# Altium schematic symbol library kmilo17pet-LT_OpAmp_LT1000.SchLib: 2280 symbols (part 36 of 79)
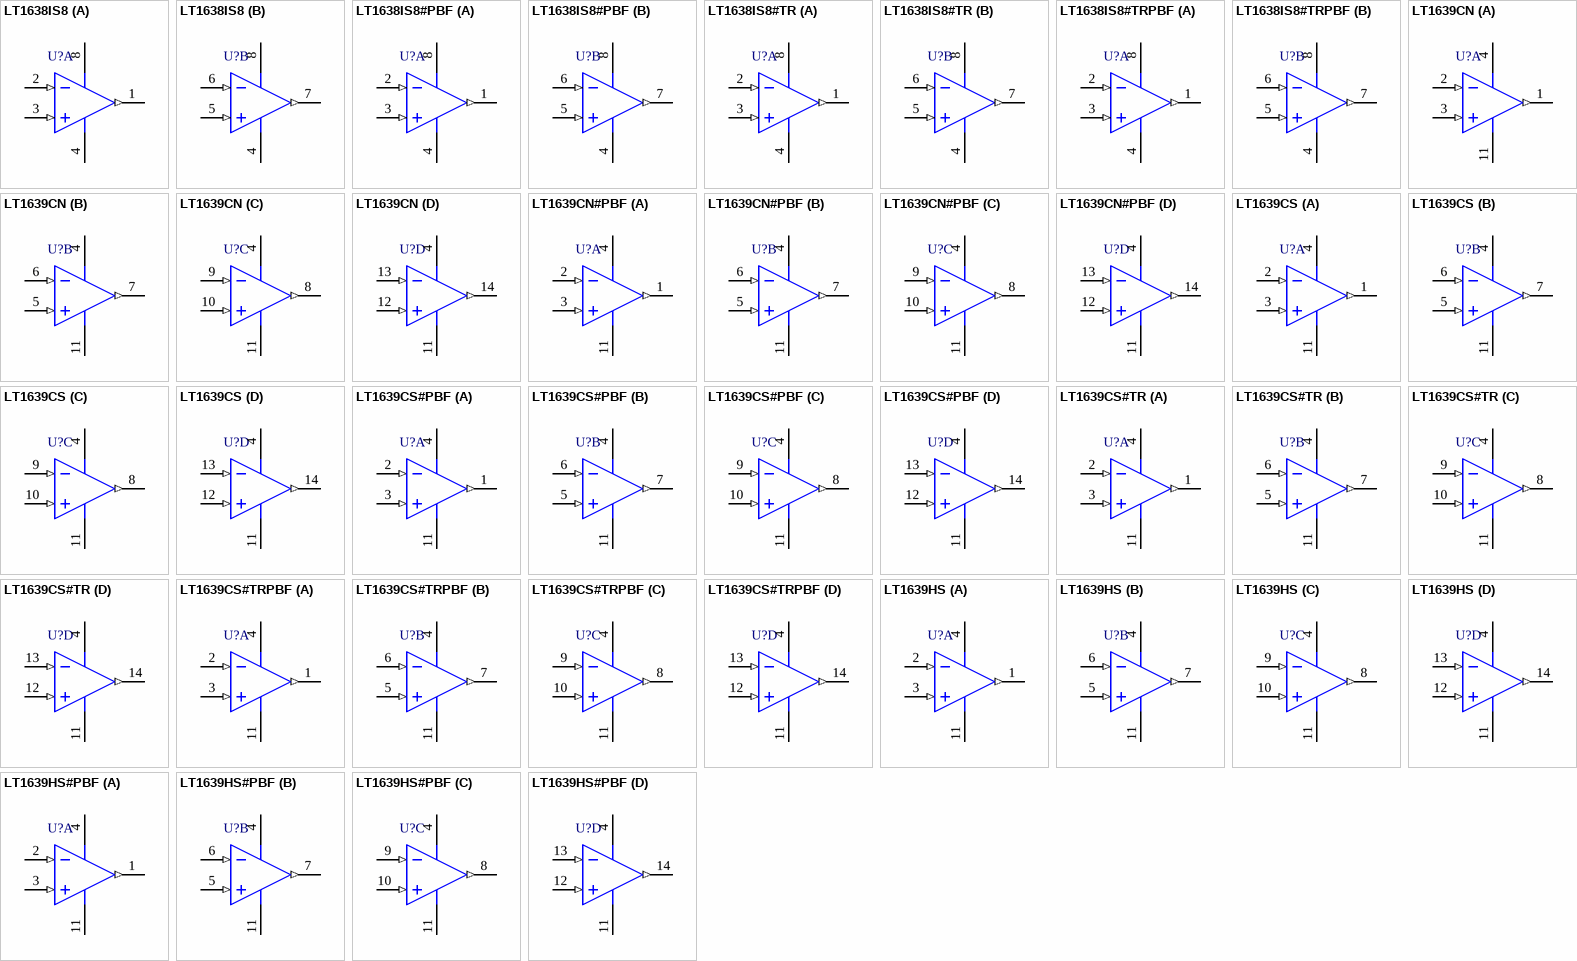
[diagram p140: symbols LT1638IS8 to LT1639HS#PBF]

## LT1639HS#PBF
designator U?
Quad Channel, High Voltage, Micropower Rail-to-Rail Operational Amplifier, 1.075 MHz Typical GBW, 0.38 V/us Typical SR, 2.2 to 44 V, 14-Pin SOIC (S-14), High Temperature / Automotive, Pb-Free; Linear Technology Part Number: LT1639; Manufacturer: Linear Technology; PartNumber: LT1639HS#PBF; Channels (#): 4; GBW (MHz) Typical: 1.075; Is (mA) Typical: 0.17; SR (V/us) Typical: 0.38; Vos (mV) Guaranteed: 0.6; Vos (mV) Typical: 0.2; Vs Max (V): 44; Vs Min (V): 2.2; DatasheetVersion: Rev. G; PackageVersion: Rev G; PackageReference: LT-S-14; PackageDescription: 14-Lead Plastic Small Outline, Body 8.65 x 3.90 mm, Pitch 1.27 mm; Supplier 1: Digi-Key; Supplier Part Number 1: LT1639HS#PBF-ND; Supplier 2: Newark; Supplier Part Number 2: 57M5522; RoHS: Pb-Free; Type: VFB; Mounting Technology: Surface Mount; ComponentLink1Description: Manufacturer URL; ComponentLink1URL: http://www.linear.com/; ComponentLink2Description: Datasheet; ComponentLink2URL: http://cds.linear.com/docs/en/datasheet/16389fg.pdf; ComponentLink3Description: Package Specification; ComponentLink3URL: http://cds.linear.com/docs/en/packaging/05081610_G_S14.pdf
footprint LT-S-14_N (SOIC, 14-Leads, Body 8.65x3.90mm, Pitch 1.27mm, IPC Medium Density)
footprint LT-S-14_L (SOIC, 14-Leads, Body 8.65x3.90mm, Pitch 1.27mm, IPC High Density)
footprint LT-S-14_M (SOIC, 14-Leads, Body 8.65x3.90mm, Pitch 1.27mm, IPC Low Density)
pins on every part: 4 V+ (power), 11 V- (power)
part A pins: 1 OUT A (out), 2 -IN A (in), 3 +IN A (in)
part B pins: 5 +IN B (in), 6 -IN B (in), 7 OUT B (out)
part C pins: 8 OUT C (out), 9 -IN C (in), 10 +IN C (in)
part D pins: 12 +IN D (in), 13 -IN D (in), 14 OUT D (out)

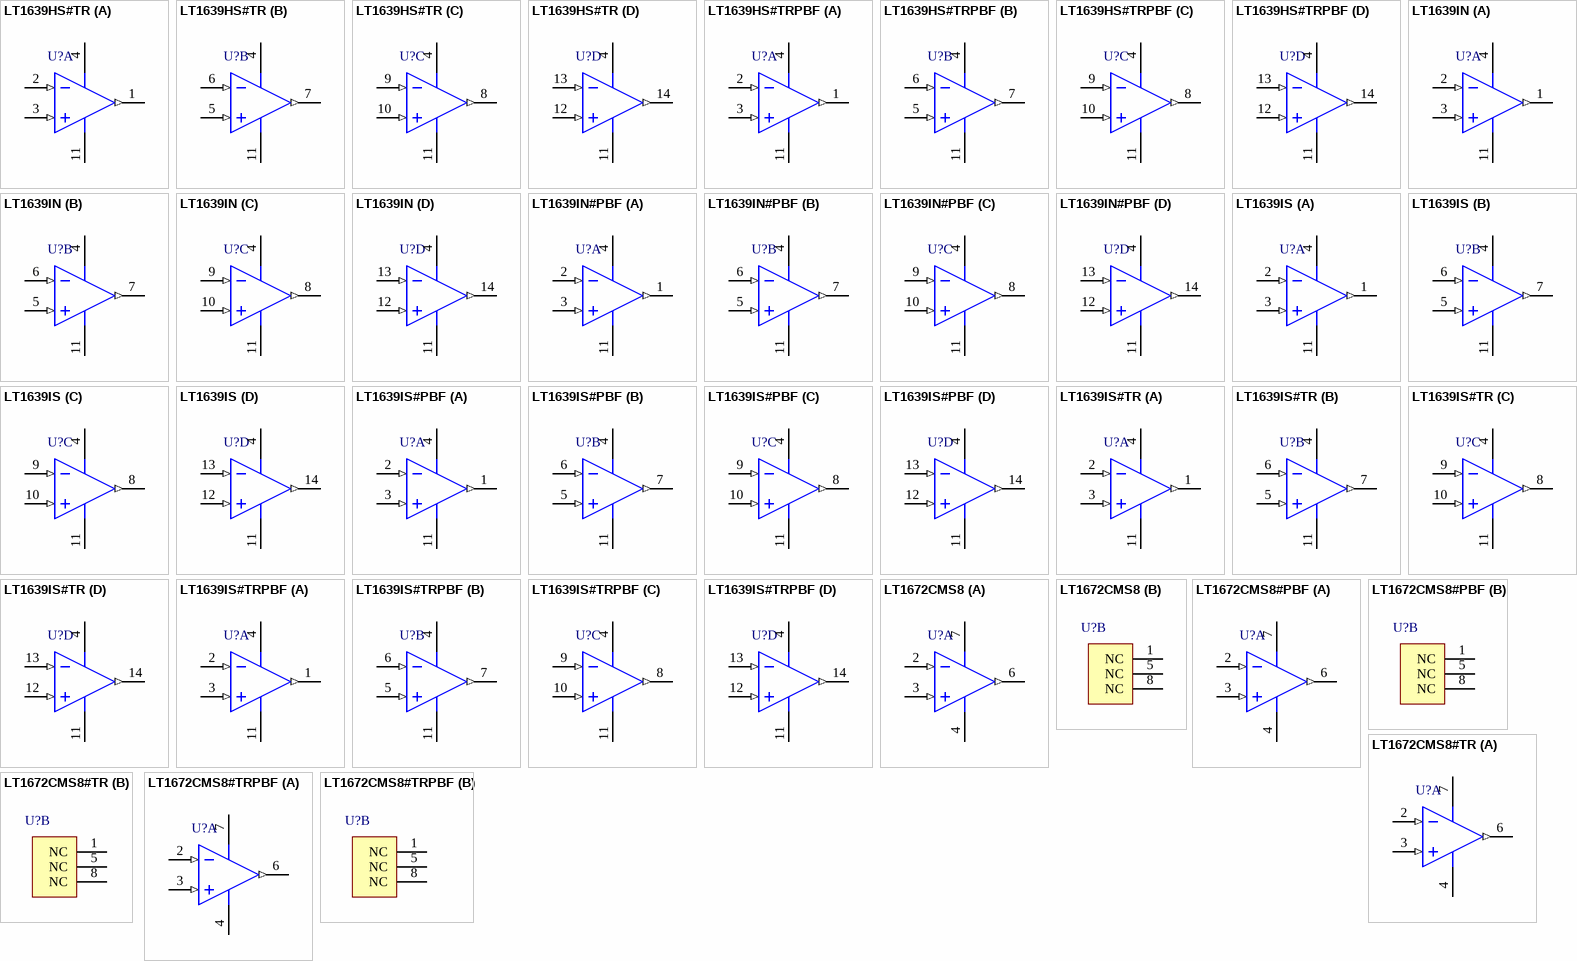
[diagram p61: symbols LT1639HS#TR to LT1672CMS8#TRPBF]

## LT1639HS#TR
designator U?
Quad Channel, High Voltage, Micropower Rail-to-Rail Operational Amplifier, 1.075 MHz Typical GBW, 0.38 V/us Typical SR, 2.2 to 44 V, 14-Pin SOIC (S-14), High Temperature / Automotive, Reel; Linear Technology Part Number: LT1639; Manufacturer: Linear Technology; PartNumber: LT1639HS#TR; Channels (#): 4; GBW (MHz) Typical: 1.075; Is (mA) Typical: 0.17; SR (V/us) Typical: 0.38; Vos (mV) Guaranteed: 0.6; Vos (mV) Typical: 0.2; Vs Max (V): 44; Vs Min (V): 2.2; DatasheetVersion: Rev. G; PackageVersion: Rev G; PackageReference: LT-S-14; PackageDescription: 14-Lead Plastic Small Outline, Body 8.65 x 3.90 mm, Pitch 1.27 mm; Supplier 1: Digi-Key; Supplier Part Number 1: LT1639HSTR-ND; Packing: Reel; Type: VFB; Mounting Technology: Surface Mount; ComponentLink1Description: Manufacturer URL; ComponentLink1URL: http://www.linear.com/; ComponentLink2Description: Datasheet; ComponentLink2URL: http://cds.linear.com/docs/en/datasheet/16389fg.pdf; ComponentLink3Description: Package Specification; ComponentLink3URL: http://cds.linear.com/docs/en/packaging/05081610_G_S14.pdf
footprint LT-S-14_N (SOIC, 14-Leads, Body 8.65x3.90mm, Pitch 1.27mm, IPC Medium Density)
footprint LT-S-14_L (SOIC, 14-Leads, Body 8.65x3.90mm, Pitch 1.27mm, IPC High Density)
footprint LT-S-14_M (SOIC, 14-Leads, Body 8.65x3.90mm, Pitch 1.27mm, IPC Low Density)
pins on every part: 4 V+ (power), 11 V- (power)
part A pins: 1 OUT A (out), 2 -IN A (in), 3 +IN A (in)
part B pins: 5 +IN B (in), 6 -IN B (in), 7 OUT B (out)
part C pins: 8 OUT C (out), 9 -IN C (in), 10 +IN C (in)
part D pins: 12 +IN D (in), 13 -IN D (in), 14 OUT D (out)

## LT1639HS#TRPBF
designator U?
Quad Channel, High Voltage, Micropower Rail-to-Rail Operational Amplifier, 1.075 MHz Typical GBW, 0.38 V/us Typical SR, 2.2 to 44 V, 14-Pin SOIC (S-14), High Temperature / Automotive, Pb-Free, Reel; Linear Technology Part Number: LT1639; Manufacturer: Linear Technology; PartNumber: LT1639HS#TRPBF; Channels (#): 4; GBW (MHz) Typical: 1.075; Is (mA) Typical: 0.17; SR (V/us) Typical: 0.38; Vos (mV) Guaranteed: 0.6; Vos (mV) Typical: 0.2; Vs Max (V): 44; Vs Min (V): 2.2; DatasheetVersion: Rev. G; PackageVersion: Rev G; PackageReference: LT-S-14; PackageDescription: 14-Lead Plastic Small Outline, Body 8.65 x 3.90 mm, Pitch 1.27 mm; Supplier 1: Digi-Key; Supplier Part Number 1: LT1639HS#TRPBF-ND; Packing: Reel; RoHS: Pb-Free; Type: VFB; Mounting Technology: Surface Mount; ComponentLink1Description: Manufacturer URL; ComponentLink1URL: http://www.linear.com/; ComponentLink2Description: Datasheet; ComponentLink2URL: http://cds.linear.com/docs/en/datasheet/16389fg.pdf; ComponentLink3Description: Package Specification; ComponentLink3URL: http://cds.linear.com/docs/en/packaging/05081610_G_S14.pdf
footprint LT-S-14_N (SOIC, 14-Leads, Body 8.65x3.90mm, Pitch 1.27mm, IPC Medium Density)
footprint LT-S-14_L (SOIC, 14-Leads, Body 8.65x3.90mm, Pitch 1.27mm, IPC High Density)
footprint LT-S-14_M (SOIC, 14-Leads, Body 8.65x3.90mm, Pitch 1.27mm, IPC Low Density)
pins on every part: 4 V+ (power), 11 V- (power)
part A pins: 1 OUT A (out), 2 -IN A (in), 3 +IN A (in)
part B pins: 5 +IN B (in), 6 -IN B (in), 7 OUT B (out)
part C pins: 8 OUT C (out), 9 -IN C (in), 10 +IN C (in)
part D pins: 12 +IN D (in), 13 -IN D (in), 14 OUT D (out)

## LT1639IN
designator U?
Quad Channel, High Voltage, Micropower Rail-to-Rail Operational Amplifier, 1.075 MHz Typical GBW, 0.38 V/us Typical SR, 2.2 to 44 V, 14-Pin DIP (N-14), Industrial; Linear Technology Part Number: LT1639; Manufacturer: Linear Technology; PartNumber: LT1639IN; Channels (#): 4; GBW (MHz) Typical: 1.075; Is (mA) Typical: 0.17; SR (V/us) Typical: 0.38; Vos (mV) Guaranteed: 0.6; Vos (mV) Typical: 0.2; Vs Max (V): 44; Vs Min (V): 2.2; DatasheetVersion: Rev. G; PackageVersion: Rev I; PackageReference: LT-N-14; PackageDescription: 14-Lead PDIP, Body 19.558 x 6.477 mm, Pitch 2.54 mm; Supplier 1: Digi-Key; Supplier Part Number 1: LT1639IN-ND; Supplier 2: Newark; Supplier Part Number 2: 57M5525; Type: VFB; Mounting Technology: Through Hole; ComponentLink1Description: Manufacturer URL; ComponentLink1URL: http://www.linear.com/; ComponentLink2Description: Datasheet; ComponentLink2URL: http://cds.linear.com/docs/en/datasheet/16389fg.pdf; ComponentLink3Description: Package Specification; ComponentLink3URL: http://cds.linear.com/docs/en/packaging/05081510_I_N14.pdf
footprint LT-N-14 (DIP, 14-Leads, Body 19.558x6.477mm, Pitch 2.54mm)
pins on every part: 4 V+ (power), 11 V- (power)
part A pins: 1 OUT A (out), 2 -IN A (in), 3 +IN A (in)
part B pins: 5 +IN B (in), 6 -IN B (in), 7 OUT B (out)
part C pins: 8 OUT C (out), 9 -IN C (in), 10 +IN C (in)
part D pins: 12 +IN D (in), 13 -IN D (in), 14 OUT D (out)

## LT1639IN#PBF
designator U?
Quad Channel, High Voltage, Micropower Rail-to-Rail Operational Amplifier, 1.075 MHz Typical GBW, 0.38 V/us Typical SR, 2.2 to 44 V, 14-Pin DIP (N-14), Industrial, Pb-Free; Linear Technology Part Number: LT1639; Manufacturer: Linear Technology; PartNumber: LT1639IN#PBF; Channels (#): 4; GBW (MHz) Typical: 1.075; Is (mA) Typical: 0.17; SR (V/us) Typical: 0.38; Vos (mV) Guaranteed: 0.6; Vos (mV) Typical: 0.2; Vs Max (V): 44; Vs Min (V): 2.2; DatasheetVersion: Rev. G; PackageVersion: Rev I; PackageReference: LT-N-14; PackageDescription: 14-Lead PDIP, Body 19.558 x 6.477 mm, Pitch 2.54 mm; Supplier 1: Digi-Key; Supplier Part Number 1: LT1639IN#PBF-ND; Supplier 2: Newark; Supplier Part Number 2: 57M5526; RoHS: Pb-Free; Type: VFB; Mounting Technology: Surface Mount; ComponentLink1Description: Manufacturer URL; ComponentLink1URL: http://www.linear.com/; ComponentLink2Description: Datasheet; ComponentLink2URL: http://cds.linear.com/docs/en/datasheet/16389fg.pdf; ComponentLink3Description: Package Specification; ComponentLink3URL: http://cds.linear.com/docs/en/packaging/05081510_I_N14.pdf
footprint LT-N-14 (DIP, 14-Leads, Body 19.558x6.477mm, Pitch 2.54mm)
pins on every part: 4 V+ (power), 11 V- (power)
part A pins: 1 OUT A (out), 2 -IN A (in), 3 +IN A (in)
part B pins: 5 +IN B (in), 6 -IN B (in), 7 OUT B (out)
part C pins: 8 OUT C (out), 9 -IN C (in), 10 +IN C (in)
part D pins: 12 +IN D (in), 13 -IN D (in), 14 OUT D (out)

## LT1639IS
designator U?
Quad Channel, High Voltage, Micropower Rail-to-Rail Operational Amplifier, 1.075 MHz Typical GBW, 0.38 V/us Typical SR, 2.2 to 44 V, 14-Pin SOIC (S-14), Industrial; Linear Technology Part Number: LT1639; Manufacturer: Linear Technology; PartNumber: LT1639IS; Channels (#): 4; GBW (MHz) Typical: 1.075; Is (mA) Typical: 0.17; SR (V/us) Typical: 0.38; Vos (mV) Guaranteed: 0.6; Vos (mV) Typical: 0.2; Vs Max (V): 44; Vs Min (V): 2.2; DatasheetVersion: Rev. G; PackageVersion: Rev G; PackageReference: LT-S-14; PackageDescription: 14-Lead Plastic Small Outline, Body 8.65 x 3.90 mm, Pitch 1.27 mm; Supplier 1: Digi-Key; Supplier Part Number 1: LT1639IS-ND; Type: VFB; Mounting Technology: Surface Mount; ComponentLink1Description: Manufacturer URL; ComponentLink1URL: http://www.linear.com/; ComponentLink2Description: Datasheet; ComponentLink2URL: http://cds.linear.com/docs/en/datasheet/16389fg.pdf; ComponentLink3Description: Package Specification; ComponentLink3URL: http://cds.linear.com/docs/en/packaging/05081610_G_S14.pdf
footprint LT-S-14_N (SOIC, 14-Leads, Body 8.65x3.90mm, Pitch 1.27mm, IPC Medium Density)
footprint LT-S-14_L (SOIC, 14-Leads, Body 8.65x3.90mm, Pitch 1.27mm, IPC High Density)
footprint LT-S-14_M (SOIC, 14-Leads, Body 8.65x3.90mm, Pitch 1.27mm, IPC Low Density)
pins on every part: 4 V+ (power), 11 V- (power)
part A pins: 1 OUT A (out), 2 -IN A (in), 3 +IN A (in)
part B pins: 5 +IN B (in), 6 -IN B (in), 7 OUT B (out)
part C pins: 8 OUT C (out), 9 -IN C (in), 10 +IN C (in)
part D pins: 12 +IN D (in), 13 -IN D (in), 14 OUT D (out)

## LT1639IS#PBF
designator U?
Quad Channel, High Voltage, Micropower Rail-to-Rail Operational Amplifier, 1.075 MHz Typical GBW, 0.38 V/us Typical SR, 2.2 to 44 V, 14-Pin SOIC (S-14), Industrial,Pb-Free; Linear Technology Part Number: LT1639; Manufacturer: Linear Technology; PartNumber: LT1639IS#PBF; Channels (#): 4; GBW (MHz) Typical: 1.075; Is (mA) Typical: 0.17; SR (V/us) Typical: 0.38; Vos (mV) Guaranteed: 0.6; Vos (mV) Typical: 0.2; Vs Max (V): 44; Vs Min (V): 2.2; DatasheetVersion: Rev. G; PackageVersion: Rev G; PackageReference: LT-S-14; PackageDescription: 14-Lead Plastic Small Outline, Body 8.65 x 3.90 mm, Pitch 1.27 mm; Supplier 1: Digi-Key; Supplier Part Number 1: LT1639IS#PBF-ND; Supplier 2: Farnell; Supplier Part Number 2: 1663463; Supplier 3: Newark; Supplier Part Number 3: 57M5528; RoHS: Pb-Free; Type: VFB; Mounting Technology: Surface Mount; ComponentLink1Description: Manufacturer URL; ComponentLink1URL: http://www.linear.com/; ComponentLink2Description: Datasheet; ComponentLink2URL: http://cds.linear.com/docs/en/datasheet/16389fg.pdf; ComponentLink3Description: Package Specification; ComponentLink3URL: http://cds.linear.com/docs/en/packaging/05081610_G_S14.pdf
footprint LT-S-14_N (SOIC, 14-Leads, Body 8.65x3.90mm, Pitch 1.27mm, IPC Medium Density)
footprint LT-S-14_L (SOIC, 14-Leads, Body 8.65x3.90mm, Pitch 1.27mm, IPC High Density)
footprint LT-S-14_M (SOIC, 14-Leads, Body 8.65x3.90mm, Pitch 1.27mm, IPC Low Density)
pins on every part: 4 V+ (power), 11 V- (power)
part A pins: 1 OUT A (out), 2 -IN A (in), 3 +IN A (in)
part B pins: 5 +IN B (in), 6 -IN B (in), 7 OUT B (out)
part C pins: 8 OUT C (out), 9 -IN C (in), 10 +IN C (in)
part D pins: 12 +IN D (in), 13 -IN D (in), 14 OUT D (out)

## LT1639IS#TR
designator U?
Quad Channel, High Voltage, Micropower Rail-to-Rail Operational Amplifier, 1.075 MHz Typical GBW, 0.38 V/us Typical SR, 2.2 to 44 V, 14-Pin SOIC (S-14), Industrial, Reel; Linear Technology Part Number: LT1639; Manufacturer: Linear Technology; PartNumber: LT1639IS#TR; Channels (#): 4; GBW (MHz) Typical: 1.075; Is (mA) Typical: 0.17; SR (V/us) Typical: 0.38; Vos (mV) Guaranteed: 0.6; Vos (mV) Typical: 0.2; Vs Max (V): 44; Vs Min (V): 2.2; DatasheetVersion: Rev. G; PackageVersion: Rev G; PackageReference: LT-S-14; PackageDescription: 14-Lead Plastic Small Outline, Body 8.65 x 3.90 mm, Pitch 1.27 mm; Supplier 1: Digi-Key; Supplier Part Number 1: LT1639IS#TR-ND; Packing: Reel; Type: VFB; Mounting Technology: Surface Mount; ComponentLink1Description: Manufacturer URL; ComponentLink1URL: http://www.linear.com/; ComponentLink2Description: Datasheet; ComponentLink2URL: http://cds.linear.com/docs/en/datasheet/16389fg.pdf; ComponentLink3Description: Package Specification; ComponentLink3URL: http://cds.linear.com/docs/en/packaging/05081610_G_S14.pdf
footprint LT-S-14_N (SOIC, 14-Leads, Body 8.65x3.90mm, Pitch 1.27mm, IPC Medium Density)
footprint LT-S-14_L (SOIC, 14-Leads, Body 8.65x3.90mm, Pitch 1.27mm, IPC High Density)
footprint LT-S-14_M (SOIC, 14-Leads, Body 8.65x3.90mm, Pitch 1.27mm, IPC Low Density)
pins on every part: 4 V+ (power), 11 V- (power)
part A pins: 1 OUT A (out), 2 -IN A (in), 3 +IN A (in)
part B pins: 5 +IN B (in), 6 -IN B (in), 7 OUT B (out)
part C pins: 8 OUT C (out), 9 -IN C (in), 10 +IN C (in)
part D pins: 12 +IN D (in), 13 -IN D (in), 14 OUT D (out)

## LT1639IS#TRPBF
designator U?
Quad Channel, High Voltage, Micropower Rail-to-Rail Operational Amplifier, 1.075 MHz Typical GBW, 0.38 V/us Typical SR, 2.2 to 44 V, 14-Pin SOIC (S-14), Industrial, Pb-Free, Reel; Linear Technology Part Number: LT1639; Manufacturer: Linear Technology; PartNumber: LT1639IS#TRPBF; Channels (#): 4; GBW (MHz) Typical: 1.075; Is (mA) Typical: 0.17; SR (V/us) Typical: 0.38; Vos (mV) Guaranteed: 0.6; Vos (mV) Typical: 0.2; Vs Max (V): 44; Vs Min (V): 2.2; DatasheetVersion: Rev. G; PackageVersion: Rev G; PackageReference: LT-S-14; PackageDescription: 14-Lead Plastic Small Outline, Body 8.65 x 3.90 mm, Pitch 1.27 mm; Supplier 1: Digi-Key; Supplier Part Number 1: LT1639IS#TRPBFTR-ND; Supplier 2: Digi-Key; Supplier Part Number 2: LT1639IS#TRPBFCT-ND; Supplier 3: Digi-Key; Supplier Part Number 3: LT1639IS#TRPBFDKR-ND; Supplier 4: Newark; Supplier Part Number 4: 57M5530; Packing: Reel; RoHS: Pb-Free; Type: VFB; Mounting Technology: Surface Mount; ComponentLink1Description: Manufacturer URL; ComponentLink1URL: http://www.linear.com/; ComponentLink2Description: Datasheet; ComponentLink2URL: http://cds.linear.com/docs/en/datasheet/16389fg.pdf; ComponentLink3Description: Package Specification; ComponentLink3URL: http://cds.linear.com/docs/en/packaging/05081610_G_S14.pdf
footprint LT-S-14_N (SOIC, 14-Leads, Body 8.65x3.90mm, Pitch 1.27mm, IPC Medium Density)
footprint LT-S-14_L (SOIC, 14-Leads, Body 8.65x3.90mm, Pitch 1.27mm, IPC High Density)
footprint LT-S-14_M (SOIC, 14-Leads, Body 8.65x3.90mm, Pitch 1.27mm, IPC Low Density)
pins on every part: 4 V+ (power), 11 V- (power)
part A pins: 1 OUT A (out), 2 -IN A (in), 3 +IN A (in)
part B pins: 5 +IN B (in), 6 -IN B (in), 7 OUT B (out)
part C pins: 8 OUT C (out), 9 -IN C (in), 10 +IN C (in)
part D pins: 12 +IN D (in), 13 -IN D (in), 14 OUT D (out)

## LT1672CMS8
designator U?
Single Channel, Ultra Low Power, Over-The-Top, Rail-to-Rail, Operational Amplifier, 0.012 MHz Typical GBW, 0.005 V/us Typical SR, 2.1 to 36 V, 8-Pin SOP (MS8-8), Commercial; Linear Technology Part Number: LT1672; Manufacturer: Linear Technology; PartNumber: LT1672CMS8; Channels (#): 1; GBW (MHz) Typical: 0.012; Is (mA) Typical: 0.0015; SR (V/us) Typical: 0.005; Vos (mV) Guaranteed: 0.375; Vos (mV) Typical: 0.15; Vs Max (V): 36; Vs Min (V): 2.1; PackageVersion: Rev G; PackageReference: LT-MS8-8; PackageDescription: 8-Lead Plastic Small Outline, Body 3.9 x 4.9 mm, Pitch 1.27 mm; Supplier 1: Digi-Key; Supplier Part Number 1: LT1672CMS8-ND; Type: VFB; Mounting Technology: Surface Mount; ComponentLink1Description: Manufacturer URL; ComponentLink1URL: http://www.linear.com/; ComponentLink2Description: Datasheet; ComponentLink2URL: http://cds.linear.com/docs/en/datasheet/167234f.pdf; ComponentLink3Description: Package Specification; ComponentLink3URL: http://cds.linear.com/docs/en/packaging/05081610_G_SO8.pdf
footprint LT-MS8-8_N (SOP, 8-Leads, Body 3x3mm, Pitch 0.65mm, IPC Medium Density)
footprint LT-MS8-8_L (SOP, 8-Leads, Body 3x3mm, Pitch 0.65mm, IPC High Density)
footprint LT-MS8-8_M (SOP, 8-Leads, Body 3x3mm, Pitch 0.65mm, IPC Low Density)
part A pins: 2 -IN (in), 3 +IN (in), 4 V- (power), 6 OUT (out), 7 V+ (power)
part B pins: 1 NC, 5 NC, 8 NC

## LT1672CMS8#PBF
designator U?
Single Channel, Ultra Low Power, Over-The-Top, Rail-to-Rail, Operational Amplifier, 0.012 MHz Typical GBW, 0.005 V/us Typical SR, 2.1 to 36 V, 8-Pin SOP (MS8-8), Commercial, Pb-Free; Linear Technology Part Number: LT1672; Manufacturer: Linear Technology; PartNumber: LT1672CMS8#PBF; Channels (#): 1; GBW (MHz) Typical: 0.012; Is (mA) Typical: 0.0015; SR (V/us) Typical: 0.005; Vos (mV) Guaranteed: 0.375; Vos (mV) Typical: 0.15; Vs Max (V): 36; Vs Min (V): 2.1; PackageVersion: Rev G; PackageReference: LT-MS8-8; PackageDescription: 8-Lead Plastic Small Outline, Body 3.9 x 4.9 mm, Pitch 1.27 mm; Supplier 1: Digi-Key; Supplier Part Number 1: LT1672CMS8#PBF-ND; RoHS: Pb-Free; Type: VFB; Mounting Technology: Surface Mount; ComponentLink1Description: Manufacturer URL; ComponentLink1URL: http://www.linear.com/; ComponentLink2Description: Datasheet; ComponentLink2URL: http://cds.linear.com/docs/en/datasheet/167234f.pdf; ComponentLink3Description: Package Specification; ComponentLink3URL: http://cds.linear.com/docs/en/packaging/05081610_G_SO8.pdf
footprint LT-MS8-8_N (SOP, 8-Leads, Body 3x3mm, Pitch 0.65mm, IPC Medium Density)
footprint LT-MS8-8_L (SOP, 8-Leads, Body 3x3mm, Pitch 0.65mm, IPC High Density)
footprint LT-MS8-8_M (SOP, 8-Leads, Body 3x3mm, Pitch 0.65mm, IPC Low Density)
part A pins: 2 -IN (in), 3 +IN (in), 4 V- (power), 6 OUT (out), 7 V+ (power)
part B pins: 1 NC, 5 NC, 8 NC

## LT1672CMS8#TR
designator U?
Single Channel, Ultra Low Power, Over-The-Top, Rail-to-Rail, Operational Amplifier, 0.012 MHz Typical GBW, 0.005 V/us Typical SR, 2.1 to 36 V, 8-Pin SOP (MS8-8), Commercial, Reel; Linear Technology Part Number: LT1672; Manufacturer: Linear Technology; PartNumber: LT1672CMS8#TR; Channels (#): 1; GBW (MHz) Typical: 0.012; Is (mA) Typical: 0.0015; SR (V/us) Typical: 0.005; Vos (mV) Guaranteed: 0.375; Vos (mV) Typical: 0.15; Vs Max (V): 36; Vs Min (V): 2.1; PackageVersion: Rev G; PackageReference: LT-MS8-8; PackageDescription: 8-Lead Plastic Small Outline, Body 3.9 x 4.9 mm, Pitch 1.27 mm; Supplier 1: Digi-Key; Supplier Part Number 1: LT1672CMS8TR-ND; Packing: Reel; Type: VFB; Mounting Technology: Surface Mount; ComponentLink1Description: Manufacturer URL; ComponentLink1URL: http://www.linear.com/; ComponentLink2Description: Datasheet; ComponentLink2URL: http://cds.linear.com/docs/en/datasheet/167234f.pdf; ComponentLink3Description: Package Specification; ComponentLink3URL: http://cds.linear.com/docs/en/packaging/05081610_G_SO8.pdf
footprint LT-MS8-8_N (SOP, 8-Leads, Body 3x3mm, Pitch 0.65mm, IPC Medium Density)
footprint LT-MS8-8_L (SOP, 8-Leads, Body 3x3mm, Pitch 0.65mm, IPC High Density)
footprint LT-MS8-8_M (SOP, 8-Leads, Body 3x3mm, Pitch 0.65mm, IPC Low Density)
part A pins: 2 -IN (in), 3 +IN (in), 4 V- (power), 6 OUT (out), 7 V+ (power)
part B pins: 1 NC, 5 NC, 8 NC

## LT1672CMS8#TRPBF
designator U?
Single Channel, Ultra Low Power, Over-The-Top, Rail-to-Rail, Operational Amplifier, 0.012 MHz Typical GBW, 0.005 V/us Typical SR, 2.1 to 36 V, 8-Pin SOP (MS8-8), Commercial, Pb-Free, Reel; Linear Technology Part Number: LT1672; Manufacturer: Linear Technology; PartNumber: LT1672CMS8#TRPBF; Channels (#): 1; GBW (MHz) Typical: 0.012; Is (mA) Typical: 0.0015; SR (V/us) Typical: 0.005; Vos (mV) Guaranteed: 0.375; Vos (mV) Typical: 0.15; Vs Max (V): 36; Vs Min (V): 2.1; PackageVersion: Rev G; PackageReference: LT-MS8-8; PackageDescription: 8-Lead Plastic Small Outline, Body 3.9 x 4.9 mm, Pitch 1.27 mm; Supplier 1: Digi-Key; Supplier Part Number 1: LT1672CMS8#TRPBF-ND; Packing: Reel; RoHS: Pb-Free; Type: VFB; Mounting Technology: Surface Mount; ComponentLink1Description: Manufacturer URL; ComponentLink1URL: http://www.linear.com/; ComponentLink2Description: Datasheet; ComponentLink2URL: http://cds.linear.com/docs/en/datasheet/167234f.pdf; ComponentLink3Description: Package Specification; ComponentLink3URL: http://cds.linear.com/docs/en/packaging/05081610_G_SO8.pdf
footprint LT-MS8-8_N (SOP, 8-Leads, Body 3x3mm, Pitch 0.65mm, IPC Medium Density)
footprint LT-MS8-8_L (SOP, 8-Leads, Body 3x3mm, Pitch 0.65mm, IPC High Density)
footprint LT-MS8-8_M (SOP, 8-Leads, Body 3x3mm, Pitch 0.65mm, IPC Low Density)
part A pins: 2 -IN (in), 3 +IN (in), 4 V- (power), 6 OUT (out), 7 V+ (power)
part B pins: 1 NC, 5 NC, 8 NC

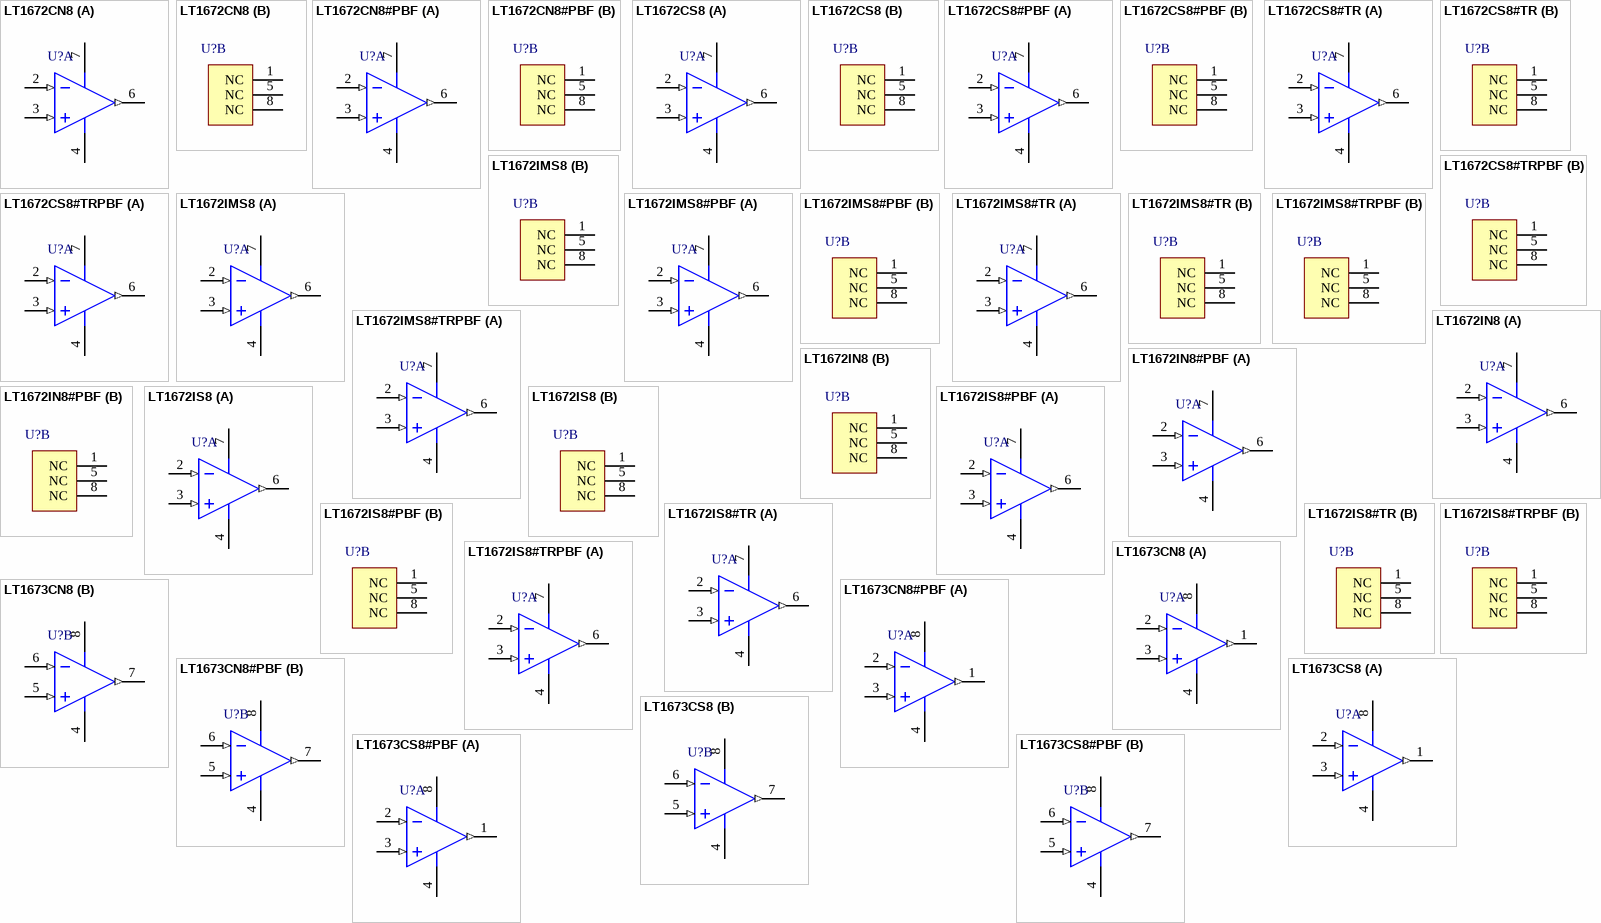
[diagram p62: symbols LT1672CN8 to LT1673CS8#PBF]

## LT1672CN8
designator U?
Single Channel, Ultra Low Power, Over-The-Top, Rail-to-Rail, Operational Amplifier, 0.012 MHz Typical GBW, 0.005 V/us Typical SR, 2.1 to 36 V, 8-Pin DIP (N8-8), Commercial; Linear Technology Part Number: LT1672; Manufacturer: Linear Technology; PartNumber: LT1672CN8; Channels (#): 1; GBW (MHz) Typical: 0.012; Is (mA) Typical: 0.0015; SR (V/us) Typical: 0.005; Vos (mV) Guaranteed: 0.375; Vos (mV) Typical: 0.15; Vs Max (V): 36; Vs Min (V): 2.1; PackageVersion: Rev I; PackageReference: LT-N8-8; PackageDescription: 8-Lead PDIP, Body 10.16 x 6.48 mm, Pitch 2.54 mm; Supplier 1: Digi-Key; Supplier Part Number 1: LT1672CN8-ND; Type: VFB; Mounting Technology: Through Hole; ComponentLink1Description: Manufacturer URL; ComponentLink1URL: http://www.linear.com/; ComponentLink2Description: Datasheet; ComponentLink2URL: http://cds.linear.com/docs/en/datasheet/167234f.pdf; ComponentLink3Description: Package Specification; ComponentLink3URL: http://cds.linear.com/docs/en/packaging/05081510_I_N8.pdf
footprint LT-N8-8 (DIP, 8-Leads, Body 10.16x6.48mm, Pitch 2.54mm)
part A pins: 2 -IN (in), 3 +IN (in), 4 V- (power), 6 OUT (out), 7 V+ (power)
part B pins: 1 NC (power), 5 NC (power), 8 NC (power)

## LT1672CN8#PBF
designator U?
Single Channel, Ultra Low Power, Over-The-Top, Rail-to-Rail, Operational Amplifier, 0.012 MHz Typical GBW, 0.005 V/us Typical SR, 2.1 to 36 V, 8-Pin DIP (N8-8), Commercial, Pb-Free; Linear Technology Part Number: LT1672; Manufacturer: Linear Technology; PartNumber: LT1672CN8#PBF; Channels (#): 1; GBW (MHz) Typical: 0.012; Is (mA) Typical: 0.0015; SR (V/us) Typical: 0.005; Vos (mV) Guaranteed: 0.375; Vos (mV) Typical: 0.15; Vs Max (V): 36; Vs Min (V): 2.1; PackageVersion: Rev I; PackageReference: LT-N8-8; PackageDescription: 8-Lead PDIP, Body 10.16 x 6.48 mm, Pitch 2.54 mm; Supplier 1: Digi-Key; Supplier Part Number 1: LT1672CN8#PBF-ND; RoHS: Pb-Free; Type: VFB; Mounting Technology: Surface Mount; ComponentLink1Description: Manufacturer URL; ComponentLink1URL: http://www.linear.com/; ComponentLink2Description: Datasheet; ComponentLink2URL: http://cds.linear.com/docs/en/datasheet/167234f.pdf; ComponentLink3Description: Package Specification; ComponentLink3URL: http://cds.linear.com/docs/en/packaging/05081510_I_N8.pdf
footprint LT-N8-8 (DIP, 8-Leads, Body 10.16x6.48mm, Pitch 2.54mm)
part A pins: 2 -IN (in), 3 +IN (in), 4 V- (power), 6 OUT (out), 7 V+ (power)
part B pins: 1 NC (power), 5 NC (power), 8 NC (power)

## LT1672CS8
designator U?
Single Channel, Ultra Low Power, Over-The-Top, Rail-to-Rail, Operational Amplifier, 0.012 MHz Typical GBW, 0.005 V/us Typical SR, 2.1 to 36 V, 8-Pin SOIC (S8-8), Commercial; Linear Technology Part Number: LT1672; Manufacturer: Linear Technology; PartNumber: LT1672CS8; Channels (#): 1; GBW (MHz) Typical: 0.012; Is (mA) Typical: 0.0015; SR (V/us) Typical: 0.005; Vos (mV) Guaranteed: 0.375; Vos (mV) Typical: 0.15; Vs Max (V): 36; Vs Min (V): 2.1; PackageVersion: Rev G; PackageReference: LT-S8-8; PackageDescription: 8-Pin Plastic Small Outline, Body 4.9 x 3.9 mm, Pitch 1.27 mm; Supplier 1: Digi-Key; Supplier Part Number 1: LT1672CS8-ND; Type: VFB; Mounting Technology: Surface Mount; ComponentLink1Description: Manufacturer URL; ComponentLink1URL: http://www.linear.com/; ComponentLink2Description: Datasheet; ComponentLink2URL: http://cds.linear.com/docs/en/datasheet/167234f.pdf; ComponentLink3Description: Package Specification; ComponentLink3URL: http://cds.linear.com/docs/en/packaging/05081610_G_SO8.pdf
footprint LT-S8-8_N (SOIC, 8-Leads, Body 4.9x3.9mm, Pitch 1.27mm, IPC Medium Density)
footprint LT-S8-8_L (SOIC, 8-Leads, Body 4.9x3.9mm, Pitch 1.27mm, IPC High Density)
footprint LT-S8-8_M (SOIC, 8-Leads, Body 4.9x3.9mm, Pitch 1.27mm, IPC Low Density)
part A pins: 2 -IN (in), 3 +IN (in), 4 V- (power), 6 OUT (out), 7 V+ (power)
part B pins: 1 NC (power), 5 NC (power), 8 NC (power)

## LT1672CS8#PBF
designator U?
Single Channel, Ultra Low Power, Over-The-Top, Rail-to-Rail, Operational Amplifier, 0.012 MHz Typical GBW, 0.005 V/us Typical SR, 2.1 to 36 V, 8-Pin SOIC (S8-8), Commercial, Pb-Free; Linear Technology Part Number: LT1672; Manufacturer: Linear Technology; PartNumber: LT1672CS8#PBF; Channels (#): 1; GBW (MHz) Typical: 0.012; Is (mA) Typical: 0.0015; SR (V/us) Typical: 0.005; Vos (mV) Guaranteed: 0.375; Vos (mV) Typical: 0.15; Vs Max (V): 36; Vs Min (V): 2.1; PackageVersion: Rev G; PackageReference: LT-S8-8; PackageDescription: 8-Pin Plastic Small Outline, Body 4.9 x 3.9 mm, Pitch 1.27 mm; Supplier 1: Digi-Key; Supplier Part Number 1: LT1672CS8#PBF-ND; RoHS: Pb-Free; Type: VFB; Mounting Technology: Surface Mount; ComponentLink1Description: Manufacturer URL; ComponentLink1URL: http://www.linear.com/; ComponentLink2Description: Datasheet; ComponentLink2URL: http://cds.linear.com/docs/en/datasheet/167234f.pdf; ComponentLink3Description: Package Specification; ComponentLink3URL: http://cds.linear.com/docs/en/packaging/05081610_G_SO8.pdf
footprint LT-S8-8_N (SOIC, 8-Leads, Body 4.9x3.9mm, Pitch 1.27mm, IPC Medium Density)
footprint LT-S8-8_L (SOIC, 8-Leads, Body 4.9x3.9mm, Pitch 1.27mm, IPC High Density)
footprint LT-S8-8_M (SOIC, 8-Leads, Body 4.9x3.9mm, Pitch 1.27mm, IPC Low Density)
part A pins: 2 -IN (in), 3 +IN (in), 4 V- (power), 6 OUT (out), 7 V+ (power)
part B pins: 1 NC (power), 5 NC (power), 8 NC (power)

## LT1672CS8#TR
designator U?
Single Channel, Ultra Low Power, Over-The-Top, Rail-to-Rail, Operational Amplifier, 0.012 MHz Typical GBW, 0.005 V/us Typical SR, 2.1 to 36 V, 8-Pin SOIC (S8-8), Commercial, Reel; Linear Technology Part Number: LT1672; Manufacturer: Linear Technology; PartNumber: LT1672CS8#TR; Channels (#): 1; GBW (MHz) Typical: 0.012; Is (mA) Typical: 0.0015; SR (V/us) Typical: 0.005; Vos (mV) Guaranteed: 0.375; Vos (mV) Typical: 0.15; Vs Max (V): 36; Vs Min (V): 2.1; PackageVersion: Rev G; PackageReference: LT-S8-8; PackageDescription: 8-Pin Plastic Small Outline, Body 4.9 x 3.9 mm, Pitch 1.27 mm; Supplier 1: Digi-Key; Supplier Part Number 1: LT1672CS8TR-ND; Packing: Reel; Type: VFB; Mounting Technology: Surface Mount; ComponentLink1Description: Manufacturer URL; ComponentLink1URL: http://www.linear.com/; ComponentLink2Description: Datasheet; ComponentLink2URL: http://cds.linear.com/docs/en/datasheet/167234f.pdf; ComponentLink3Description: Package Specification; ComponentLink3URL: http://cds.linear.com/docs/en/packaging/05081610_G_SO8.pdf
footprint LT-S8-8_N (SOIC, 8-Leads, Body 4.9x3.9mm, Pitch 1.27mm, IPC Medium Density)
footprint LT-S8-8_L (SOIC, 8-Leads, Body 4.9x3.9mm, Pitch 1.27mm, IPC High Density)
footprint LT-S8-8_M (SOIC, 8-Leads, Body 4.9x3.9mm, Pitch 1.27mm, IPC Low Density)
part A pins: 2 -IN (in), 3 +IN (in), 4 V- (power), 6 OUT (out), 7 V+ (power)
part B pins: 1 NC (power), 5 NC (power), 8 NC (power)

## LT1672CS8#TRPBF
designator U?
Single Channel, Ultra Low Power, Over-The-Top, Rail-to-Rail, Operational Amplifier, 0.012 MHz Typical GBW, 0.005 V/us Typical SR, 2.1 to 36 V, 8-Pin SOIC (S8-8), Commercial, Pb-Free, Reel; Linear Technology Part Number: LT1672; Manufacturer: Linear Technology; PartNumber: LT1672CS8#TRPBF; Channels (#): 1; GBW (MHz) Typical: 0.012; Is (mA) Typical: 0.0015; SR (V/us) Typical: 0.005; Vos (mV) Guaranteed: 0.375; Vos (mV) Typical: 0.15; Vs Max (V): 36; Vs Min (V): 2.1; PackageVersion: Rev G; PackageReference: LT-S8-8; PackageDescription: 8-Pin Plastic Small Outline, Body 4.9 x 3.9 mm, Pitch 1.27 mm; Supplier 1: Digi-Key; Supplier Part Number 1: LT1672CS8#TRPBF-ND; Packing: Reel; RoHS: Pb-Free; Type: VFB; Mounting Technology: Surface Mount; ComponentLink1Description: Manufacturer URL; ComponentLink1URL: http://www.linear.com/; ComponentLink2Description: Datasheet; ComponentLink2URL: http://cds.linear.com/docs/en/datasheet/167234f.pdf; ComponentLink3Description: Package Specification; ComponentLink3URL: http://cds.linear.com/docs/en/packaging/05081610_G_SO8.pdf
footprint LT-S8-8_N (SOIC, 8-Leads, Body 4.9x3.9mm, Pitch 1.27mm, IPC Medium Density)
footprint LT-S8-8_L (SOIC, 8-Leads, Body 4.9x3.9mm, Pitch 1.27mm, IPC High Density)
footprint LT-S8-8_M (SOIC, 8-Leads, Body 4.9x3.9mm, Pitch 1.27mm, IPC Low Density)
part A pins: 2 -IN (in), 3 +IN (in), 4 V- (power), 6 OUT (out), 7 V+ (power)
part B pins: 1 NC, 5 NC, 8 NC

## LT1672IMS8
designator U?
Single Channel, Ultra Low Power, Over-The-Top, Rail-to-Rail, Operational Amplifier, 0.012 MHz Typical GBW, 0.005 V/us Typical SR, 2.1 to 36 V, 8-Pin SOP (MS8-8), Industrial; Linear Technology Part Number: LT1672; Manufacturer: Linear Technology; PartNumber: LT1672IMS8; Channels (#): 1; GBW (MHz) Typical: 0.012; Is (mA) Typical: 0.0015; SR (V/us) Typical: 0.005; Vos (mV) Guaranteed: 0.375; Vos (mV) Typical: 0.15; Vs Max (V): 36; Vs Min (V): 2.1; PackageVersion: Rev G; PackageReference: LT-MS8-8; PackageDescription: 8-Lead Plastic Small Outline, Body 3.9 x 4.9 mm, Pitch 1.27 mm; Supplier 1: Digi-Key; Supplier Part Number 1: LT1672IMS8-ND; Type: VFB; Mounting Technology: Surface Mount; ComponentLink1Description: Manufacturer URL; ComponentLink1URL: http://www.linear.com/; ComponentLink2Description: Datasheet; ComponentLink2URL: http://cds.linear.com/docs/en/datasheet/167234f.pdf; ComponentLink3Description: Package Specification; ComponentLink3URL: http://cds.linear.com/docs/en/packaging/05081610_G_SO8.pdf
footprint LT-MS8-8_N (SOP, 8-Leads, Body 3x3mm, Pitch 0.65mm, IPC Medium Density)
footprint LT-MS8-8_L (SOP, 8-Leads, Body 3x3mm, Pitch 0.65mm, IPC High Density)
footprint LT-MS8-8_M (SOP, 8-Leads, Body 3x3mm, Pitch 0.65mm, IPC Low Density)
part A pins: 2 -IN (in), 3 +IN (in), 4 V- (power), 6 OUT (out), 7 V+ (power)
part B pins: 1 NC, 5 NC, 8 NC

## LT1672IMS8#PBF
designator U?
Single Channel, Ultra Low Power, Over-The-Top, Rail-to-Rail, Operational Amplifier, 0.012 MHz Typical GBW, 0.005 V/us Typical SR, 2.1 to 36 V, 8-Pin SOP (MS8-8), Industrial, Pb-Free; Linear Technology Part Number: LT1672; Manufacturer: Linear Technology; PartNumber: LT1672IMS8#PBF; Channels (#): 1; GBW (MHz) Typical: 0.012; Is (mA) Typical: 0.0015; SR (V/us) Typical: 0.005; Vos (mV) Guaranteed: 0.375; Vos (mV) Typical: 0.15; Vs Max (V): 36; Vs Min (V): 2.1; PackageVersion: Rev G; PackageReference: LT-MS8-8; PackageDescription: 8-Lead Plastic Small Outline, Body 3.9 x 4.9 mm, Pitch 1.27 mm; Supplier 1: Digi-Key; Supplier Part Number 1: LT1672IMS8#PBF-ND; RoHS: Pb-Free; Type: VFB; Mounting Technology: Surface Mount; ComponentLink1Description: Manufacturer URL; ComponentLink1URL: http://www.linear.com/; ComponentLink2Description: Datasheet; ComponentLink2URL: http://cds.linear.com/docs/en/datasheet/167234f.pdf; ComponentLink3Description: Package Specification; ComponentLink3URL: http://cds.linear.com/docs/en/packaging/05081610_G_SO8.pdf
footprint LT-MS8-8_N (SOP, 8-Leads, Body 3x3mm, Pitch 0.65mm, IPC Medium Density)
footprint LT-MS8-8_L (SOP, 8-Leads, Body 3x3mm, Pitch 0.65mm, IPC High Density)
footprint LT-MS8-8_M (SOP, 8-Leads, Body 3x3mm, Pitch 0.65mm, IPC Low Density)
part A pins: 2 -IN (in), 3 +IN (in), 4 V- (power), 6 OUT (out), 7 V+ (power)
part B pins: 1 NC, 5 NC, 8 NC

## LT1672IMS8#TR
designator U?
Single Channel, Ultra Low Power, Over-The-Top, Rail-to-Rail, Operational Amplifier, 0.012 MHz Typical GBW, 0.005 V/us Typical SR, 2.1 to 36 V, 8-Pin SOP (MS8-8), Industrial , Reel; Linear Technology Part Number: LT1672; Manufacturer: Linear Technology; PartNumber: LT1672IMS8#TR; Channels (#): 1; GBW (MHz) Typical: 0.012; Is (mA) Typical: 0.0015; SR (V/us) Typical: 0.005; Vos (mV) Guaranteed: 0.375; Vos (mV) Typical: 0.15; Vs Max (V): 36; Vs Min (V): 2.1; PackageVersion: Rev G; PackageReference: LT-MS8-8; PackageDescription: 8-Lead Plastic Small Outline, Body 3.9 x 4.9 mm, Pitch 1.27 mm; Supplier 1: Digi-Key; Supplier Part Number 1: LT1672IMS8TR-ND; Packing: Reel; Type: VFB; Mounting Technology: Surface Mount; ComponentLink1Description: Manufacturer URL; ComponentLink1URL: http://www.linear.com/; ComponentLink2Description: Datasheet; ComponentLink2URL: http://cds.linear.com/docs/en/datasheet/167234f.pdf; ComponentLink3Description: Package Specification; ComponentLink3URL: http://cds.linear.com/docs/en/packaging/05081610_G_SO8.pdf
footprint LT-MS8-8_N (SOP, 8-Leads, Body 3x3mm, Pitch 0.65mm, IPC Medium Density)
footprint LT-MS8-8_L (SOP, 8-Leads, Body 3x3mm, Pitch 0.65mm, IPC High Density)
footprint LT-MS8-8_M (SOP, 8-Leads, Body 3x3mm, Pitch 0.65mm, IPC Low Density)
part A pins: 2 -IN (in), 3 +IN (in), 4 V- (power), 6 OUT (out), 7 V+ (power)
part B pins: 1 NC, 5 NC, 8 NC

## LT1672IMS8#TRPBF
designator U?
Single Channel, Ultra Low Power, Over-The-Top, Rail-to-Rail, Operational Amplifier, 0.012 MHz Typical GBW, 0.005 V/us Typical SR, 2.1 to 36 V, 8-Pin SOP (MS8-8), Industrial, Pb-Free, Reel; Linear Technology Part Number: LT1672; Manufacturer: Linear Technology; PartNumber: LT1672IMS8#TRPBF; Channels (#): 1; GBW (MHz) Typical: 0.012; Is (mA) Typical: 0.0015; SR (V/us) Typical: 0.005; Vos (mV) Guaranteed: 0.375; Vos (mV) Typical: 0.15; Vs Max (V): 36; Vs Min (V): 2.1; PackageVersion: Rev G; PackageReference: LT-MS8-8; PackageDescription: 8-Lead Plastic Small Outline, Body 3.9 x 4.9 mm, Pitch 1.27 mm; Supplier 1: Digi-Key; Supplier Part Number 1: LT1672IMS8#TRPBF-ND; Packing: Reel; RoHS: Pb-Free; Type: VFB; Mounting Technology: Surface Mount; ComponentLink1Description: Manufacturer URL; ComponentLink1URL: http://www.linear.com/; ComponentLink2Description: Datasheet; ComponentLink2URL: http://cds.linear.com/docs/en/datasheet/167234f.pdf; ComponentLink3Description: Package Specification; ComponentLink3URL: http://cds.linear.com/docs/en/packaging/05081610_G_SO8.pdf
footprint LT-MS8-8_N (SOP, 8-Leads, Body 3x3mm, Pitch 0.65mm, IPC Medium Density)
footprint LT-MS8-8_L (SOP, 8-Leads, Body 3x3mm, Pitch 0.65mm, IPC High Density)
footprint LT-MS8-8_M (SOP, 8-Leads, Body 3x3mm, Pitch 0.65mm, IPC Low Density)
part A pins: 2 -IN (in), 3 +IN (in), 4 V- (power), 6 OUT (out), 7 V+ (power)
part B pins: 1 NC, 5 NC, 8 NC

## LT1672IN8
designator U?
Single Channel, Ultra Low Power, Over-The-Top, Rail-to-Rail, Operational Amplifier, 0.012 MHz Typical GBW, 0.005 V/us Typical SR, 2.1 to 36 V, 8-Pin DIP (N8-8), Industrial; Linear Technology Part Number: LT1672; Manufacturer: Linear Technology; PartNumber: LT1672IN8; Channels (#): 1; GBW (MHz) Typical: 0.012; Is (mA) Typical: 0.0015; SR (V/us) Typical: 0.005; Vos (mV) Guaranteed: 0.375; Vos (mV) Typical: 0.15; Vs Max (V): 36; Vs Min (V): 2.1; PackageVersion: Rev I; PackageReference: LT-N8-8; PackageDescription: 8-Lead PDIP, Body 10.16 x 6.48 mm, Pitch 2.54 mm; Supplier 1: Digi-Key; Supplier Part Number 1: LT1672IN8-ND; Type: VFB; Mounting Technology: Through Hole; ComponentLink1Description: Manufacturer URL; ComponentLink1URL: http://www.linear.com/; ComponentLink2Description: Datasheet; ComponentLink2URL: http://cds.linear.com/docs/en/datasheet/167234f.pdf; ComponentLink3Description: Package Specification; ComponentLink3URL: http://cds.linear.com/docs/en/packaging/05081510_I_N8.pdf
footprint LT-N8-8 (DIP, 8-Leads, Body 10.16x6.48mm, Pitch 2.54mm)
part A pins: 2 -IN (in), 3 +IN (in), 4 V- (power), 6 OUT (out), 7 V+ (power)
part B pins: 1 NC, 5 NC, 8 NC

## LT1672IN8#PBF
designator U?
Single Channel, Ultra Low Power, Over-The-Top, Rail-to-Rail, Operational Amplifier, 0.012 MHz Typical GBW, 0.005 V/us Typical SR, 2.1 to 36 V, 8-Pin DIP (N8-8), Industrial, Pb-Free; Linear Technology Part Number: LT1672; Manufacturer: Linear Technology; PartNumber: LT1672IN8#PBF; Channels (#): 1; GBW (MHz) Typical: 0.012; Is (mA) Typical: 0.0015; SR (V/us) Typical: 0.005; Vos (mV) Guaranteed: 0.375; Vos (mV) Typical: 0.15; Vs Max (V): 36; Vs Min (V): 2.1; PackageVersion: Rev I; PackageReference: LT-N8-8; PackageDescription: 8-Lead PDIP, Body 10.16 x 6.48 mm, Pitch 2.54 mm; Supplier 1: Digi-Key; Supplier Part Number 1: LT1672IN8#PBF-ND; RoHS: Pb-Free; Type: VFB; Mounting Technology: Surface Mount; ComponentLink1Description: Manufacturer URL; ComponentLink1URL: http://www.linear.com/; ComponentLink2Description: Datasheet; ComponentLink2URL: http://cds.linear.com/docs/en/datasheet/167234f.pdf; ComponentLink3Description: Package Specification; ComponentLink3URL: http://cds.linear.com/docs/en/packaging/05081510_I_N8.pdf
footprint LT-N8-8 (DIP, 8-Leads, Body 10.16x6.48mm, Pitch 2.54mm)
part A pins: 2 -IN (in), 3 +IN (in), 4 V- (power), 6 OUT (out), 7 V+ (power)
part B pins: 1 NC, 5 NC, 8 NC

## LT1672IS8
designator U?
Single Channel, Ultra Low Power, Over-The-Top, Rail-to-Rail, Operational Amplifier, 0.012 MHz Typical GBW, 0.005 V/us Typical SR, 2.1 to 36 V, 8-Pin SOIC (S8-8), Industrial; Linear Technology Part Number: LT1672; Manufacturer: Linear Technology; PartNumber: LT1672IS8; Channels (#): 1; GBW (MHz) Typical: 0.012; Is (mA) Typical: 0.0015; SR (V/us) Typical: 0.005; Vos (mV) Guaranteed: 0.375; Vos (mV) Typical: 0.15; Vs Max (V): 36; Vs Min (V): 2.1; PackageVersion: Rev G; PackageReference: LT-S8-8; PackageDescription: 8-Pin Plastic Small Outline, Body 4.9 x 3.9 mm, Pitch 1.27 mm; Supplier 1: Digi-Key; Supplier Part Number 1: LT1672IS8-ND; Type: VFB; Mounting Technology: Surface Mount; ComponentLink1Description: Manufacturer URL; ComponentLink1URL: http://www.linear.com/; ComponentLink2Description: Datasheet; ComponentLink2URL: http://cds.linear.com/docs/en/datasheet/167234f.pdf; ComponentLink3Description: Package Specification; ComponentLink3URL: http://cds.linear.com/docs/en/packaging/05081610_G_SO8.pdf
footprint LT-S8-8_N (SOIC, 8-Leads, Body 4.9x3.9mm, Pitch 1.27mm, IPC Medium Density)
footprint LT-S8-8_L (SOIC, 8-Leads, Body 4.9x3.9mm, Pitch 1.27mm, IPC High Density)
footprint LT-S8-8_M (SOIC, 8-Leads, Body 4.9x3.9mm, Pitch 1.27mm, IPC Low Density)
part A pins: 2 -IN (in), 3 +IN (in), 4 V- (power), 6 OUT (out), 7 V+ (power)
part B pins: 1 NC, 5 NC, 8 NC

## LT1672IS8#PBF
designator U?
Single Channel, Ultra Low Power, Over-The-Top, Rail-to-Rail, Operational Amplifier, 0.012 MHz Typical GBW, 0.005 V/us Typical SR, 2.1 to 36 V, 8-Pin SOIC (S8-8), Industrial, Pb-Free; Linear Technology Part Number: LT1672; Manufacturer: Linear Technology; PartNumber: LT1672IS8#PBF; Channels (#): 1; GBW (MHz) Typical: 0.012; Is (mA) Typical: 0.0015; SR (V/us) Typical: 0.005; Vos (mV) Guaranteed: 0.375; Vos (mV) Typical: 0.15; Vs Max (V): 36; Vs Min (V): 2.1; PackageVersion: Rev G; PackageReference: LT-S8-8; PackageDescription: 8-Pin Plastic Small Outline, Body 4.9 x 3.9 mm, Pitch 1.27 mm; Supplier 1: Digi-Key; Supplier Part Number 1: LT1672IS8#PBF-ND; Supplier 2: Farnell; Supplier Part Number 2: 2308588; Supplier 3: Newark; Supplier Part Number 3: 57M5631; RoHS: Pb-Free; Type: VFB; Mounting Technology: Surface Mount; ComponentLink1Description: Manufacturer URL; ComponentLink1URL: http://www.linear.com/; ComponentLink2Description: Datasheet; ComponentLink2URL: http://cds.linear.com/docs/en/datasheet/167234f.pdf; ComponentLink3Description: Package Specification; ComponentLink3URL: http://cds.linear.com/docs/en/packaging/05081610_G_SO8.pdf
footprint LT-S8-8_N (SOIC, 8-Leads, Body 4.9x3.9mm, Pitch 1.27mm, IPC Medium Density)
footprint LT-S8-8_L (SOIC, 8-Leads, Body 4.9x3.9mm, Pitch 1.27mm, IPC High Density)
footprint LT-S8-8_M (SOIC, 8-Leads, Body 4.9x3.9mm, Pitch 1.27mm, IPC Low Density)
part A pins: 2 -IN (in), 3 +IN (in), 4 V- (power), 6 OUT (out), 7 V+ (power)
part B pins: 1 NC, 5 NC, 8 NC

## LT1672IS8#TR
designator U?
Single Channel, Ultra Low Power, Over-The-Top, Rail-to-Rail, Operational Amplifier, 0.012 MHz Typical GBW, 0.005 V/us Typical SR, 2.1 to 36 V, 8-Pin SOIC (S8-8), Industrial, Reel; Linear Technology Part Number: LT1672; Manufacturer: Linear Technology; PartNumber: LT1672IS8#TR; Channels (#): 1; GBW (MHz) Typical: 0.012; Is (mA) Typical: 0.0015; SR (V/us) Typical: 0.005; Vos (mV) Guaranteed: 0.375; Vos (mV) Typical: 0.15; Vs Max (V): 36; Vs Min (V): 2.1; PackageVersion: Rev G; PackageReference: LT-S8-8; PackageDescription: 8-Pin Plastic Small Outline, Body 4.9 x 3.9 mm, Pitch 1.27 mm; Supplier 1: Digi-Key; Supplier Part Number 1: LT1672IS8TR-ND; Packing: Reel; Type: VFB; Mounting Technology: Surface Mount; ComponentLink1Description: Manufacturer URL; ComponentLink1URL: http://www.linear.com/; ComponentLink2Description: Datasheet; ComponentLink2URL: http://cds.linear.com/docs/en/datasheet/167234f.pdf; ComponentLink3Description: Package Specification; ComponentLink3URL: http://cds.linear.com/docs/en/packaging/05081610_G_SO8.pdf
footprint LT-S8-8_N (SOIC, 8-Leads, Body 4.9x3.9mm, Pitch 1.27mm, IPC Medium Density)
footprint LT-S8-8_L (SOIC, 8-Leads, Body 4.9x3.9mm, Pitch 1.27mm, IPC High Density)
footprint LT-S8-8_M (SOIC, 8-Leads, Body 4.9x3.9mm, Pitch 1.27mm, IPC Low Density)
part A pins: 2 -IN (in), 3 +IN (in), 4 V- (power), 6 OUT (out), 7 V+ (power)
part B pins: 1 NC, 5 NC, 8 NC

## LT1672IS8#TRPBF
designator U?
Single Channel, Ultra Low Power, Over-The-Top, Rail-to-Rail, Operational Amplifier, 0.012 MHz Typical GBW, 0.005 V/us Typical SR, 2.1 to 36 V, 8-Pin SOIC (S8-8), Industrial, Pb-Free, Reel; Linear Technology Part Number: LT1672; Manufacturer: Linear Technology; PartNumber: LT1672IS8#TRPBF; Channels (#): 1; GBW (MHz) Typical: 0.012; Is (mA) Typical: 0.0015; SR (V/us) Typical: 0.005; Vos (mV) Guaranteed: 0.375; Vos (mV) Typical: 0.15; Vs Max (V): 36; Vs Min (V): 2.1; PackageVersion: Rev G; PackageReference: LT-S8-8; PackageDescription: 8-Pin Plastic Small Outline, Body 4.9 x 3.9 mm, Pitch 1.27 mm; Supplier 1: Digi-Key; Supplier Part Number 1: LT1672IS8#TRPBF-ND; Packing: Reel; RoHS: Pb-Free; Type: VFB; Mounting Technology: Surface Mount; ComponentLink1Description: Manufacturer URL; ComponentLink1URL: http://www.linear.com/; ComponentLink2Description: Datasheet; ComponentLink2URL: http://cds.linear.com/docs/en/datasheet/167234f.pdf; ComponentLink3Description: Package Specification; ComponentLink3URL: http://cds.linear.com/docs/en/packaging/05081610_G_SO8.pdf
footprint LT-S8-8_N (SOIC, 8-Leads, Body 4.9x3.9mm, Pitch 1.27mm, IPC Medium Density)
footprint LT-S8-8_L (SOIC, 8-Leads, Body 4.9x3.9mm, Pitch 1.27mm, IPC High Density)
footprint LT-S8-8_M (SOIC, 8-Leads, Body 4.9x3.9mm, Pitch 1.27mm, IPC Low Density)
part A pins: 2 -IN (in), 3 +IN (in), 4 V- (power), 6 OUT (out), 7 V+ (power)
part B pins: 1 NC, 5 NC, 8 NC

## LT1673CN8
designator U?
Dual Channel, Ultra Low Power, Over-The-Top, Rail-to-Rail, Operational Amplifier, 0.012 MHz Typical GBW, 0.005 V/us Typical SR, 2.1 to 36 V, 8-Pin DIP (N8-8), Commercial; Linear Technology Part Number: LT1673; Manufacturer: Linear Technology; PartNumber: LT1673CN8; Channels (#): 2; GBW (MHz) Typical: 0.012; Is (mA) Typical: 0.0015; SR (V/us) Typical: 0.005; Vos (mV) Guaranteed: 0.375; Vos (mV) Typical: 0.15; Vs Max (V): 36; Vs Min (V): 2.1; PackageVersion: Rev I; PackageReference: LT-N8-8; PackageDescription: 8-Lead PDIP, Body 10.16 x 6.48 mm, Pitch 2.54 mm; Supplier 1: Digi-Key; Supplier Part Number 1: LT1673CN8-ND; Type: VFB; Mounting Technology: Through Hole; ComponentLink1Description: Manufacturer URL; ComponentLink1URL: http://www.linear.com/; ComponentLink2Description: Datasheet; ComponentLink2URL: http://cds.linear.com/docs/en/datasheet/167234f.pdf; ComponentLink3Description: Package Specification; ComponentLink3URL: http://cds.linear.com/docs/en/packaging/05081510_I_N8.pdf
footprint LT-N8-8 (DIP, 8-Leads, Body 10.16x6.48mm, Pitch 2.54mm)
pins on every part: 4 V- (power), 8 V+ (power)
part A pins: 1 OUT A (out), 2 -IN A (in), 3 +IN A (in)
part B pins: 5 +IN B (in), 6 -IN B (in), 7 OUT B (out)

## LT1673CN8#PBF
designator U?
Dual Channel, Ultra Low Power, Over-The-Top, Rail-to-Rail, Operational Amplifier, 0.012 MHz Typical GBW, 0.005 V/us Typical SR, 2.1 to 36 V, 8-Pin DIP (N8-8), Commercial, Pb-Free; Linear Technology Part Number: LT1673; Manufacturer: Linear Technology; PartNumber: LT1673CN8#PBF; Channels (#): 2; GBW (MHz) Typical: 0.012; Is (mA) Typical: 0.0015; SR (V/us) Typical: 0.005; Vos (mV) Guaranteed: 0.375; Vos (mV) Typical: 0.15; Vs Max (V): 36; Vs Min (V): 2.1; PackageVersion: Rev I; PackageReference: LT-N8-8; PackageDescription: 8-Lead PDIP, Body 10.16 x 6.48 mm, Pitch 2.54 mm; Supplier 1: Digi-Key; Supplier Part Number 1: LT1673CN8#PBF-ND; RoHS: Pb-Free; Type: VFB; Mounting Technology: Surface Mount; ComponentLink1Description: Manufacturer URL; ComponentLink1URL: http://www.linear.com/; ComponentLink2Description: Datasheet; ComponentLink2URL: http://cds.linear.com/docs/en/datasheet/167234f.pdf; ComponentLink3Description: Package Specification; ComponentLink3URL: http://cds.linear.com/docs/en/packaging/05081510_I_N8.pdf
footprint LT-N8-8 (DIP, 8-Leads, Body 10.16x6.48mm, Pitch 2.54mm)
pins on every part: 4 V- (power), 8 V+ (power)
part A pins: 1 OUT A (out), 2 -IN A (in), 3 +IN A (in)
part B pins: 5 +IN B (in), 6 -IN B (in), 7 OUT B (out)

## LT1673CS8
designator U?
Dual Channel, Ultra Low Power, Over-The-Top, Rail-to-Rail, Operational Amplifier, 0.012 MHz Typical GBW, 0.005 V/us Typical SR, 2.1 to 36 V, 8-Pin SOIC (S8-8), Commercial; Linear Technology Part Number: LT1673; Manufacturer: Linear Technology; PartNumber: LT1673CS8; Channels (#): 2; GBW (MHz) Typical: 0.012; Is (mA) Typical: 0.0015; SR (V/us) Typical: 0.005; Vos (mV) Guaranteed: 0.375; Vos (mV) Typical: 0.15; Vs Max (V): 36; Vs Min (V): 2.1; PackageVersion: Rev G; PackageReference: LT-S8-8; PackageDescription: 8-Pin Plastic Small Outline, Body 4.9 x 3.9 mm, Pitch 1.27 mm; Supplier 1: Digi-Key; Supplier Part Number 1: LT1673CS8-ND; Type: VFB; Mounting Technology: Surface Mount; ComponentLink1Description: Manufacturer URL; ComponentLink1URL: http://www.linear.com/; ComponentLink2Description: Datasheet; ComponentLink2URL: http://cds.linear.com/docs/en/datasheet/167234f.pdf; ComponentLink3Description: Package Specification; ComponentLink3URL: http://cds.linear.com/docs/en/packaging/05081610_G_SO8.pdf
footprint LT-S8-8_N (SOIC, 8-Leads, Body 4.9x3.9mm, Pitch 1.27mm, IPC Medium Density)
footprint LT-S8-8_L (SOIC, 8-Leads, Body 4.9x3.9mm, Pitch 1.27mm, IPC High Density)
footprint LT-S8-8_M (SOIC, 8-Leads, Body 4.9x3.9mm, Pitch 1.27mm, IPC Low Density)
pins on every part: 4 V- (power), 8 V+ (power)
part A pins: 1 OUT A (out), 2 -IN A (in), 3 +IN A (in)
part B pins: 5 +IN B (in), 6 -IN B (in), 7 OUT B (out)

## LT1673CS8#PBF
designator U?
Dual Channel, Ultra Low Power, Over-The-Top, Rail-to-Rail, Operational Amplifier, 0.012 MHz Typical GBW, 0.005 V/us Typical SR, 2.1 to 36 V, 8-Pin SOIC (S8-8), Commercial, Pb-Free; Linear Technology Part Number: LT1673; Manufacturer: Linear Technology; PartNumber: LT1673CS8#PBF; Channels (#): 2; GBW (MHz) Typical: 0.012; Is (mA) Typical: 0.0015; SR (V/us) Typical: 0.005; Vos (mV) Guaranteed: 0.375; Vos (mV) Typical: 0.15; Vs Max (V): 36; Vs Min (V): 2.1; PackageVersion: Rev G; PackageReference: LT-S8-8; PackageDescription: 8-Pin Plastic Small Outline, Body 4.9 x 3.9 mm, Pitch 1.27 mm; Supplier 1: Digi-Key; Supplier Part Number 1: LT1673CS8#PBF-ND; Supplier 2: Farnell; Supplier Part Number 2: 1330684; Supplier 3: Newark; Supplier Part Number 3: 57M5637; RoHS: Pb-Free; Type: VFB; Mounting Technology: Surface Mount; ComponentLink1Description: Manufacturer URL; ComponentLink1URL: http://www.linear.com/; ComponentLink2Description: Datasheet; ComponentLink2URL: http://cds.linear.com/docs/en/datasheet/167234f.pdf; ComponentLink3Description: Package Specification; ComponentLink3URL: http://cds.linear.com/docs/en/packaging/05081610_G_SO8.pdf
footprint LT-S8-8_N (SOIC, 8-Leads, Body 4.9x3.9mm, Pitch 1.27mm, IPC Medium Density)
footprint LT-S8-8_L (SOIC, 8-Leads, Body 4.9x3.9mm, Pitch 1.27mm, IPC High Density)
footprint LT-S8-8_M (SOIC, 8-Leads, Body 4.9x3.9mm, Pitch 1.27mm, IPC Low Density)
pins on every part: 4 V- (power), 8 V+ (power)
part A pins: 1 OUT A (out), 2 -IN A (in), 3 +IN A (in)
part B pins: 5 +IN B (in), 6 -IN B (in), 7 OUT B (out)

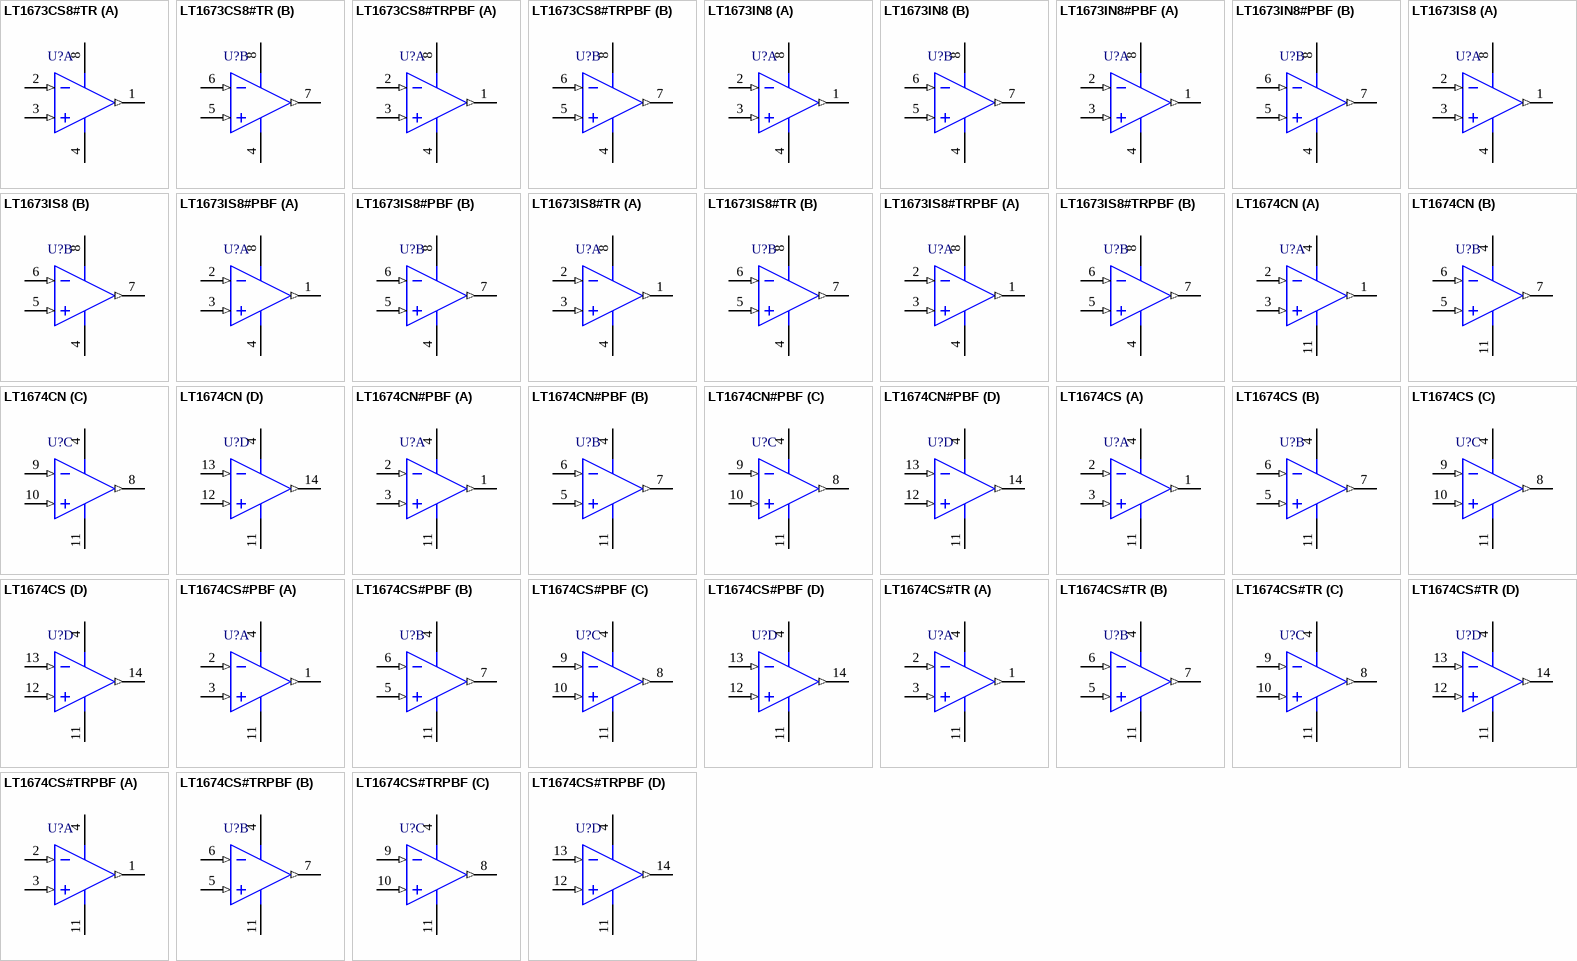
[diagram p63: symbols LT1673CS8#TR to LT1674CS#TRPBF]

## LT1673CS8#TR
designator U?
Dual Channel, Ultra Low Power, Over-The-Top, Rail-to-Rail, Operational Amplifier, 0.012 MHz Typical GBW, 0.005 V/us Typical SR, 2.1 to 36 V, 8-Pin SOIC (S8-8), Commercial, Reel; Linear Technology Part Number: LT1673; Manufacturer: Linear Technology; PartNumber: LT1673CS8#TR; Channels (#): 2; GBW (MHz) Typical: 0.012; Is (mA) Typical: 0.0015; SR (V/us) Typical: 0.005; Vos (mV) Guaranteed: 0.375; Vos (mV) Typical: 0.15; Vs Max (V): 36; Vs Min (V): 2.1; PackageVersion: Rev G; PackageReference: LT-S8-8; PackageDescription: 8-Pin Plastic Small Outline, Body 4.9 x 3.9 mm, Pitch 1.27 mm; Supplier 1: Digi-Key; Supplier Part Number 1: LT1673CS8TR-ND; Packing: Reel; Type: VFB; Mounting Technology: Surface Mount; ComponentLink1Description: Manufacturer URL; ComponentLink1URL: http://www.linear.com/; ComponentLink2Description: Datasheet; ComponentLink2URL: http://cds.linear.com/docs/en/datasheet/167234f.pdf; ComponentLink3Description: Package Specification; ComponentLink3URL: http://cds.linear.com/docs/en/packaging/05081610_G_SO8.pdf
footprint LT-S8-8_N (SOIC, 8-Leads, Body 4.9x3.9mm, Pitch 1.27mm, IPC Medium Density)
footprint LT-S8-8_L (SOIC, 8-Leads, Body 4.9x3.9mm, Pitch 1.27mm, IPC High Density)
footprint LT-S8-8_M (SOIC, 8-Leads, Body 4.9x3.9mm, Pitch 1.27mm, IPC Low Density)
pins on every part: 4 V- (power), 8 V+ (power)
part A pins: 1 OUT A (out), 2 -IN A (in), 3 +IN A (in)
part B pins: 5 +IN B (in), 6 -IN B (in), 7 OUT B (out)